# Altium schematic symbol library Dien Tro.SchLib: 576 symbols (part 1 of 3)
Pins are listed as number, name and electrical type; pins without a type are passive.

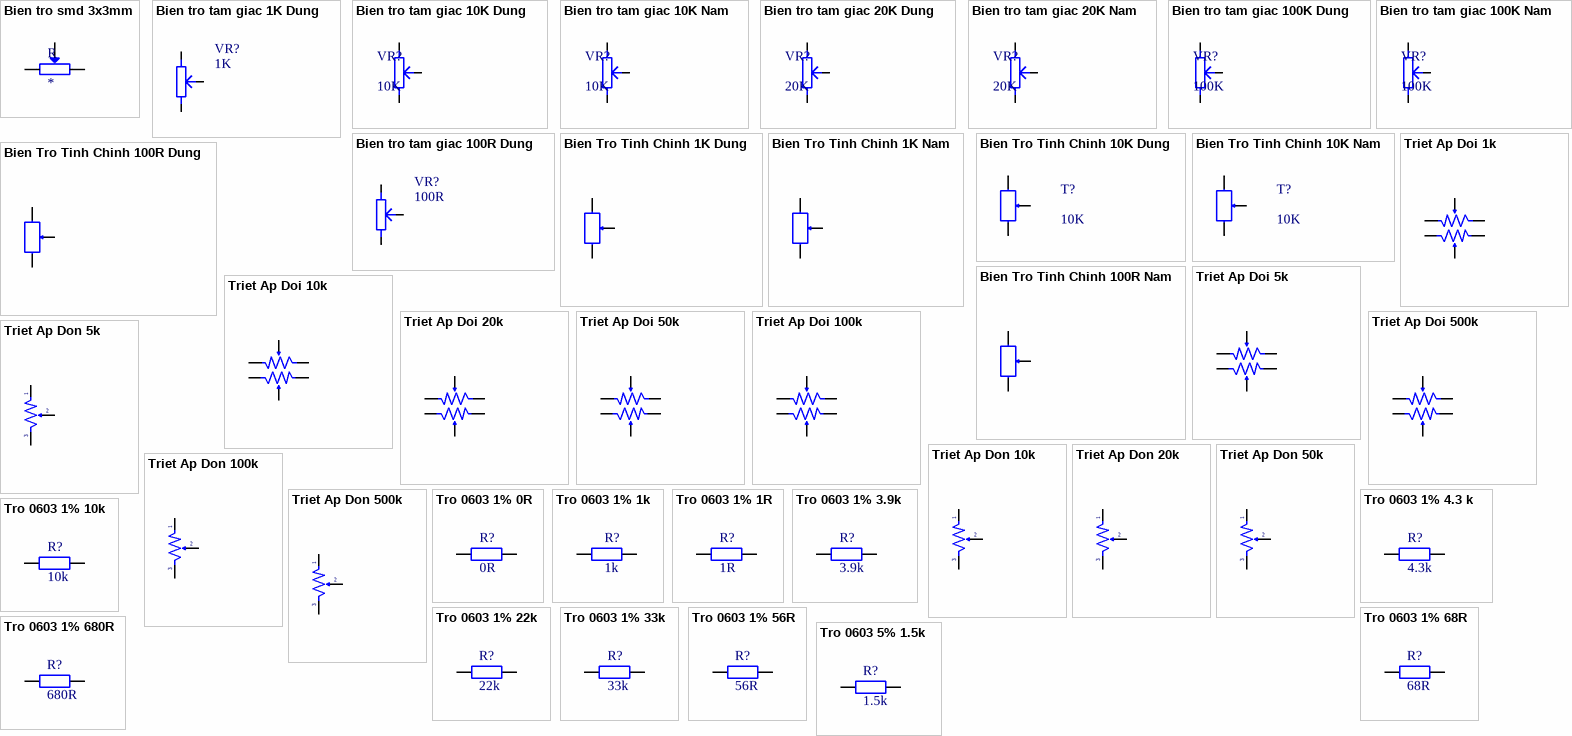
[diagram p0: symbols Bien tro smd 3x3mm to Tro 0603 5% 1.5k]

## Bien tro smd 3x3mm
designator R
Dan; MP: EVM3ESX50B12; MF: Panasonic; SnapEDA_Link: https://www.snapeda.com/parts/EVM3ESX50B12/Panasonic/view-part/558669/?ref=snap; Value: *; Price: None; Package: None; Availability: Unavailable
footprint Bien tro dan EMV3ESX50B12
pins: 1, 2, 3

## Bien tro tam giac 1K Dung
designator VR?, comment 1K
Cắm; Ten_Linh_Kien: Biến Trở Tam Giác 102-1K RM065; Don_Vi: Con; Ma_Hang: MH003709; Ghi_Chu: *; Kieu_Chan: *; Chung_Loai: Cắm
footprint Bien Tro Tam Giac Dung (RM065)
pins: 1, 2, 3

## Bien tro tam giac 10K Dung
designator VR?, comment 10K
Cắm; Ma_Hang: MH000919; Don_Vi: Con; Ten_Linh_Kien: Biến Trở Tam Giác 103-10K RM065 (Chân Đứng); Chung_Loai: Cắm; Kieu_Chan: *
footprint Bien Tro Tam Giac Dung (RM065)
pins: 1, 2, 3

## Bien tro tam giac 10K Nam
designator VR?, comment 10K
Cắm; Ma_Hang: MH004025; Don_Vi: Con; Ten_Linh_Kien: Biến Trở Tam Giác 103-10K RM063 (Chân nằm); Chung_Loai: Cắm; Kieu_Chan: *
footprint Bien Tro Tam Giac Nam (RM063)
pins: 1, 2, 3

## Bien tro tam giac 20K Dung
designator VR?, comment 20K
Cắm; Ma_Hang: MH003712; Don_Vi: Con; Ten_Linh_Kien: Biến Trở Tam Giác 203-20K RM065; Chung_Loai: Cắm; Kieu_Chan: *
footprint Bien Tro Tam Giac Dung (RM065)
pins: 1, 2, 3

## Bien tro tam giac 20K Nam
designator VR?, comment 20K
Cắm; Ma_Hang: MH006754; Don_Vi: Con; Ten_Linh_Kien: Biến Trở Tam Giác 203-20K RM063; Chung_Loai: Cắm; Kieu_Chan: *
footprint Bien Tro Tam Giac Nam (RM063)
pins: 1, 2, 3

## Bien tro tam giac 100K Dung
designator VR?, comment 100K
Cắm; Don_Vi: Con; Ten_Linh_Kien: Biến Trở Tam Giác 104-100K RM065; Ma_Hang: MH003711; Chung_Loai: Cắm; Ghi_Chu: *; Kieu_Chan: *
footprint Bien Tro Tam Giac Dung (RM065)
pins: 1, 2, 3

## Bien tro tam giac 100K Nam
designator VR?, comment 100K
Cắm; Don_Vi: Con; Ten_Linh_Kien: Biến Trở Tam Giác 104-100K RM063; Ma_Hang: MH006146; Chung_Loai: Cắm; Ghi_Chu: *; Kieu_Chan: *
footprint Bien Tro Tam Giac Nam (RM063)
pins: 1, 2, 3

## Bien tro tam giac 100R Dung
designator VR?, comment 100R
Cắm; Ten_Linh_Kien: Biến Trở Tam Giác 101-100R RM065; Don_Vi: Con; Ma_Hang: MH003710; Ghi_Chu: *; Kieu_Chan: *; Chung_Loai: Cắm
footprint Bien Tro Tam Giac Dung (RM065)
pins: 1, 2, 3

## Bien Tro Tinh Chinh 1K Dung
designator VR?, comment 1K
Cắm; Don_Vi: Con; Ten_Linh_Kien: Biến Trở VR 102-1K 3296W; Ma_Hang: MH003234; Kieu_Chan: *; Chung_Loai: Cắm
footprint Bien Tro Vi Chinh Dung (Bien tro vi chinh)
pins: 1, 2, 3

## Bien Tro Tinh Chinh 1K Nam
designator VR?, comment 1K
Cắm; Don_Vi: Con; Ten_Linh_Kien: Biến Trở VR 102-1K 3296W; Ma_Hang: MH003234; Kieu_Chan: *; Chung_Loai: Cắm
footprint BIEN TRO VI CHINH NAM
pins: 1, 2, 3

## Bien Tro Tinh Chinh 10K Dung
designator T?, comment 10K
Cắm; Ma_Hang: MH003232; Ten_Linh_Kien: Biến Trở VR 103-10K 3296W; Don_Vi: Con; Kieu_Chan: *; Chung_Loai: Cắm; Ghi_Chu: *
footprint Bien Tro Vi Chinh Dung (Bien tro vi chinh)
pins: 1, 2, 3

## Bien Tro Tinh Chinh 10K Nam
designator T?, comment 10K
Cắm; Ma_Hang: MH003232; Ten_Linh_Kien: Biến Trở VR 103-10K 3296W; Don_Vi: Con; Kieu_Chan: *; Chung_Loai: Cắm; Ghi_Chu: *
footprint BIEN TRO VI CHINH NAM
pins: 1, 2, 3

## Bien Tro Tinh Chinh 100R Dung
designator VR?, comment 100R
Cắm; Don_Vi: Con; Ten_Linh_Kien: Biến Trở VR 101-100R 3296W; Ma_Hang: MH003235; Kieu_Chan: *; Chung_Loai: Cắm
footprint Bien Tro Vi Chinh Dung (Bien tro vi chinh)
pins: 1, 2, 3

## Bien Tro Tinh Chinh 100R Nam
designator VR?, comment 100R
Cắm; Don_Vi: Con; Ten_Linh_Kien: Biến Trở VR 101-100R 3296W; Ma_Hang: MH003235; Kieu_Chan: *; Chung_Loai: Cắm
footprint BIEN TRO VI CHINH NAM
pins: 1, 2, 3

## Triet Ap Doi 1k
designator VR?, comment 1K
Cắm; Don_Vi: Con; Ten_Linh_Kien: Triết Áp Đôi B1K; Ma_Hang: MH001564; Kieu_Chan: *; Chung_Loai: Cắm
footprint Bien TRo Volume Doi (Volume control Dual)
pins: 1, 2, 3, 4, 5, 6

## Triet Ap Doi 5k
designator VR?, comment 5K
Cắm; Don_Vi: Con; Ten_Linh_Kien: Triết Áp Đôi B5K; Ma_Hang: MH001563; Kieu_Chan: *; Chung_Loai: Cắm
footprint Bien TRo Volume Doi (Volume control Dual)
pins: 1, 2, 3, 4, 5, 6

## Triet Ap Doi 10k
designator VR?, comment 10K
Cắm; Don_Vi: Con; Ten_Linh_Kien: Triết Áp Đôi B10K; Ma_Hang: MH001562; Kieu_Chan: *; Chung_Loai: Cắm
footprint Bien TRo Volume Doi (Volume control Dual)
pins: 1, 2, 3, 4, 5, 6

## Triet Ap Doi 20k
designator VR?, comment 20K
Cắm; Don_Vi: Con; Ten_Linh_Kien: Triết Áp Đôi B20K; Ma_Hang: MH001561; Kieu_Chan: *; Chung_Loai: Cắm
footprint Bien TRo Volume Doi (Volume control Dual)
pins: 1, 2, 3, 4, 5, 6

## Triet Ap Doi 50k
designator VR?, comment 50k
Cắm; Don_Vi: Con; Ten_Linh_Kien: Triết Áp Đôi B50K; Ma_Hang: MH001560; Kieu_Chan: *; Chung_Loai: Cắm
footprint Bien TRo Volume Doi (Volume control Dual)
pins: 1, 2, 3, 4, 5, 6

## Triet Ap Doi 100k
designator VR?, comment 100K
Cắm; Don_Vi: Con; Ten_Linh_Kien: Triết Áp Đôi B100K; Ma_Hang: MH001559; Kieu_Chan: *; Chung_Loai: Cắm
footprint Bien TRo Volume Doi (Volume control Dual)
pins: 1, 2, 3, 4, 5, 6

## Triet Ap Doi 500k
designator VR?, comment 500k
Cắm; Don_Vi: Con; Ten_Linh_Kien: Triết Áp Đôi B500K; Ma_Hang: MH001558; Kieu_Chan: *; Chung_Loai: Cắm
footprint Bien TRo Volume Doi (Volume control Dual)
pins: 1, 2, 3, 4, 5, 6

## Triet Ap Don 5k
designator VR?, comment 5K
Cắm; Don_Vi: Con; Ten_Linh_Kien: Triết Áp Đơn B5K; Ma_Hang: MH001416; Kieu_Chan: *; Chung_Loai: Cắm
footprint Bien Tro Volume Don (Volume control single)
pins: 1, 2, 3

## Triet Ap Don 10k
designator VR?, comment 10K
Cắm; Don_Vi: Con; Ten_Linh_Kien: Triết Áp Đơn B10K; Ma_Hang: MH001417; Kieu_Chan: *; Chung_Loai: Cắm
footprint Bien Tro Volume Don (Volume control single)
pins: 1, 2, 3

## Triet Ap Don 20k
designator VR?, comment 20k
Cắm; Don_Vi: Con; Ten_Linh_Kien: Triết Áp Đơn B20K; Ma_Hang: MH001418; Kieu_Chan: *; Chung_Loai: Cắm
footprint Bien Tro Volume Don (Volume control single)
pins: 1, 2, 3

## Triet Ap Don 50k
designator VR?, comment 50K
Cắm; Don_Vi: Con; Ten_Linh_Kien: Triết Áp Đơn B50K; Ma_Hang: MH001419; Kieu_Chan: *; Chung_Loai: Cắm
footprint Bien Tro Volume Don (Volume control single)
pins: 1, 2, 3

## Triet Ap Don 100k
designator VR?, comment 100k
Cắm; Don_Vi: Con; Ten_Linh_Kien: Triết Áp Đơn B100K; Ma_Hang: MH001420; Kieu_Chan: *; Chung_Loai: Cắm
footprint Bien Tro Volume Don (Volume control single)
pins: 1, 2, 3

## Triet Ap Don 500k
designator VR?, comment 500k
Cắm; Don_Vi: Con; Ten_Linh_Kien: Triết Áp Đơn B500K; Ma_Hang: MH001530; Kieu_Chan: *; Chung_Loai: Cắm
footprint Bien Tro Volume Don (Volume control single)
pins: 1, 2, 3

## Tro 0603 1% 0R
designator R?, comment 0R
Dán; Don_Vi: Con; So_Chan: 2; Ten_Linh_Kien: Trở 0603 1% 0R; Ma_Hang: MH005792; Chung_Loai: Dán; Kieu_Chan: *
footprint tro smd 0603 (Chip Capacitor, 2-Leads, Body 1,60x0,80mm, IPC Medium Density)
pins: 1, 2

## Tro 0603 1% 1k
designator R?, comment 1k
Dán; So_Chan: 2; Don_Vi: Con; Ten_Linh_Kien: Trở 0603 1% 1k; Ma_Hang: MH006334; Chung_Loai: Dán; Kieu_Chan: *
footprint tro smd 0603 (Chip Capacitor, 2-Leads, Body 1,60x0,80mm, IPC Medium Density)
pins: 1, 2

## Tro 0603 1% 1R
designator R?, comment 1R
Dán; Don_Vi: Con; So_Chan: 2; Ten_Linh_Kien: Trở 0603 1% 1R; Ma_Hang: MH007007; Chung_Loai: Dán; Kieu_Chan: *
footprint tro smd 0603 (Chip Capacitor, 2-Leads, Body 1,60x0,80mm, IPC Medium Density)
pins: 1, 2

## Tro 0603 1% 3.9k
designator R?, comment 3.9k
Dán; So_Chan: 2; Ten_Linh_Kien: Trở 0603 1% 3.9k; Ma_Hang: MH005793; Don_Vi: Con; Chung_Loai: Dán; Kieu_Chan: *
footprint tro smd 0603 (Chip Capacitor, 2-Leads, Body 1,60x0,80mm, IPC Medium Density)
pins: 1, 2

## Tro 0603 1% 4.3 k
designator R?, comment 4.3k
Dán; Don_Vi: Con; So_Chan: 2; Ten_Linh_Kien: Trở 0603 1% 4.3k; Ma_Hang: MH008715; Chung_Loai: Dán; Kieu_Chan: *
footprint tro smd 0603 (Chip Capacitor, 2-Leads, Body 1,60x0,80mm, IPC Medium Density)
pins: 1, 2

## Tro 0603 1% 10k
designator R?, comment 10k
Dán; Don_Vi: Con; So_Chan: 2; Ten_Linh_Kien: Trở 0603 1% 10k; Ma_Hang: MH006333; Chung_Loai: Dán; Kieu_Chan: *
footprint tro smd 0603 (Chip Capacitor, 2-Leads, Body 1,60x0,80mm, IPC Medium Density)
pins: 1, 2

## Tro 0603 1% 22k
designator R?, comment 22k
Dán; Don_Vi: Con; So_Chan: 2; Ten_Linh_Kien: Trở 0603 1% 22k; Ma_Hang: MH005794; Chung_Loai: Dán; Kieu_Chan: *
footprint tro smd 0603 (Chip Capacitor, 2-Leads, Body 1,60x0,80mm, IPC Medium Density)
pins: 1, 2

## Tro 0603 1% 33k
designator R?, comment 33k
Dán; Don_Vi: Con; So_Chan: 2; Ten_Linh_Kien: Trở 0603 1% 33k; Ma_Hang: MH006335; Chung_Loai: Dán; Kieu_Chan: *
footprint Tro smd 0603 (Chip Capacitor, 2-Leads, Body 1,60x0,80mm, IPC Medium Density)
pins: 1, 2

## Tro 0603 1% 56R
designator R?, comment 56R
Dán; Don_Vi: Con; So_Chan: 2; Ten_Linh_Kien: Trở 0603 1% 56R; Ma_Hang: MH006338; Chung_Loai: Dán; Kieu_Chan: *
footprint tro smd 0603 (Chip Capacitor, 2-Leads, Body 1,60x0,80mm, IPC Medium Density)
pins: 1, 2

## Tro 0603 1% 68R
designator R?, comment 68R
Dán; Don_Vi: Con; So_Chan: 2; Ten_Linh_Kien: Trở 0603 1% 68R; Ma_Hang: MH006337; Chung_Loai: Dán; Kieu_Chan: *
footprint tro smd 0603 (Chip Capacitor, 2-Leads, Body 1,60x0,80mm, IPC Medium Density)
pins: 1, 2

## Tro 0603 1% 680R
designator R?, comment 680R
Dán; Don_Vi: Con; So_Chan: 2; Ten_Linh_Kien: Trở 0603 1% 680R; Ma_Hang: MH006336; Chung_Loai: Dán; Kieu_Chan: *
footprint tro smd 0603 (Chip Capacitor, 2-Leads, Body 1,60x0,80mm, IPC Medium Density)
pins: 1, 2

## Tro 0603 5% 1.5k
designator R?, comment 1.5k
Dán; Don_Vi: Con; So_Chan: 2; Ten_Linh_Kien: Trở 0603 5% 1.5k; Ma_Hang: MH006313; Chung_Loai: Dán; Kieu_Chan: *
footprint tro smd 0603 (Chip Capacitor, 2-Leads, Body 1,60x0,80mm, IPC Medium Density)
pins: 1, 2

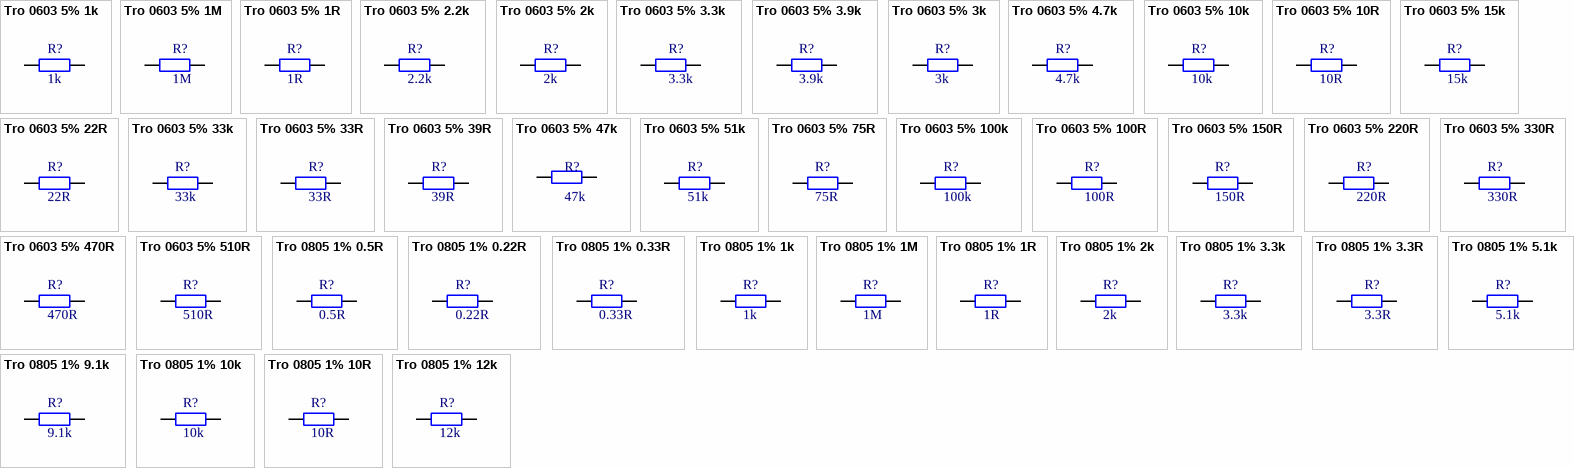
[diagram p1: symbols Tro 0603 5% 1k to Tro 0805 1% 12k]

## Tro 0603 5% 1k
designator R?, comment 1k
Dán; Don_Vi: Con; So_Chan: 2; Ten_Linh_Kien: Trở 0603 5% 1k; Ma_Hang: MH006319; Chung_Loai: Dán; Kieu_Chan: *
footprint tro smd 0603 (Chip Capacitor, 2-Leads, Body 1,60x0,80mm, IPC Medium Density)
pins: 1, 2

## Tro 0603 5% 1M
designator R?, comment 1M
Dán; Don_Vi: Con; So_Chan: 2; Ten_Linh_Kien: Trở 0603 5% 1M; Ma_Hang: MH006909; Chung_Loai: Dán; Kieu_Chan: *
footprint tro smd 0603 (Chip Capacitor, 2-Leads, Body 1,60x0,80mm, IPC Medium Density)
pins: 1, 2

## Tro 0603 5% 1R
designator R?, comment 1R
Dán; Don_Vi: Con; So_Chan: 2; Ten_Linh_Kien: Trở 0603 5% 1R; Ma_Hang: MH006320; Chung_Loai: Dán; Kieu_Chan: *
footprint tro smd 0603 (Chip Capacitor, 2-Leads, Body 1,60x0,80mm, IPC Medium Density)
pins: 1, 2

## Tro 0603 5% 2.2k
designator R?, comment 2.2k
Dán; Don_Vi: Con; So_Chan: 2; Ten_Linh_Kien: Trở 0603 5% 2.2k; Ma_Hang: MH006321; Chung_Loai: Dán; Kieu_Chan: *
footprint tro smd 0603 (Chip Capacitor, 2-Leads, Body 1,60x0,80mm, IPC Medium Density)
pins: 1, 2

## Tro 0603 5% 2k
designator R?, comment 2k
Dán; Don_Vi: Con; So_Chan: 2; Ten_Linh_Kien: Trở 0603 5% 2k; Ma_Hang: MH006324; Chung_Loai: Dán; Kieu_Chan: *
footprint tro smd 0603 (Chip Capacitor, 2-Leads, Body 1,60x0,80mm, IPC Medium Density)
pins: 1, 2

## Tro 0603 5% 3.3k
designator R?, comment 3.3k
Dán; Don_Vi: Con; So_Chan: 2; Ten_Linh_Kien: Trở 0603 5% 3.3k; Ma_Hang: MH006332; Chung_Loai: Dán; Kieu_Chan: *
footprint tro smd 0603 (Chip Capacitor, 2-Leads, Body 1,60x0,80mm, IPC Medium Density)
pins: 1, 2

## Tro 0603 5% 3.9k
designator R?, comment 3.9k
Dán; Chung_Loai: Dám; Don_Vi: Con; So_Chan: 2; Ten_Linh_Kien: Trở 0603 5% 3.9k; Ma_Hang: MH007884; Kieu_Chan: *
footprint tro smd 0603 (Chip Capacitor, 2-Leads, Body 1,60x0,80mm, IPC Medium Density)
pins: 1, 2

## Tro 0603 5% 3k
designator R?, comment 3k
Dán; Chung_Loai: Dám; Don_Vi: Con; So_Chan: 2; Ma_Hang: MH008668; Ten_Linh_Kien: Trở 0603 5% 3k; Kieu_Chan: *
footprint tro smd 0603 (Chip Capacitor, 2-Leads, Body 1,60x0,80mm, IPC Medium Density)
pins: 1, 2

## Tro 0603 5% 4.7k
designator R?, comment 4.7k
Dán; Don_Vi: Con; So_Chan: 2; Ten_Linh_Kien: Trở 0603 5% 4.7k; Ma_Hang: MH006327; Chung_Loai: Dán; Kieu_Chan: *
footprint tro smd 0603 (Chip Capacitor, 2-Leads, Body 1,60x0,80mm, IPC Medium Density)
pins: 1, 2

## Tro 0603 5% 10k
designator R?, comment 10k
Dán; Don_Vi: Con; So_Chan: 2; Ten_Linh_Kien: Trở 0603 5% 10k; Ma_Hang: MH006316; Chung_Loai: Dán; Kieu_Chan: *
footprint tro smd 0603 (Chip Capacitor, 2-Leads, Body 1,60x0,80mm, IPC Medium Density)
pins: 1, 2

## Tro 0603 5% 10R
designator R?, comment 10R
Dán; So_Chan: 2; Ten_Linh_Kien: Trở 0603 5% 10R; Ma_Hang: MH006317; Don_Vi: Con; Chung_Loai: Dán; Kieu_Chan: *
footprint Tro smd 0603 (Chip Capacitor, 2-Leads, Body 1,60x0,80mm, IPC Medium Density)
pins: 1, 2

## Tro 0603 5% 15k
designator R?, comment 15k
Dán; So_Chan: 2; Don_Vi: Con; Ten_Linh_Kien: Trở 0603 5% 15k; Ma_Hang: MH004575; Chung_Loai: Dán; Kieu_Chan: *
footprint tro smd 0603 (Chip Capacitor, 2-Leads, Body 1,60x0,80mm, IPC Medium Density)
pins: 1, 2

## Tro 0603 5% 22R
designator R?, comment 22R
Dán; Don_Vi: Con; So_Chan: 2; Ten_Linh_Kien: Trở 0603 5% 22R; Ma_Hang: MH006331; Chung_Loai: Dán; Kieu_Chan: *
footprint tro smd 0603 (Chip Capacitor, 2-Leads, Body 1,60x0,80mm, IPC Medium Density)
pins: 1, 2

## Tro 0603 5% 33k
designator R?, comment 33k
Dán; Don_Vi: Con; So_Chan: 2; Ten_Linh_Kien: Trở 0603 5% 33k; Ma_Hang: MH006325; Chung_Loai: Dán; Kieu_Chan: *
footprint tro smd 0603 (Chip Capacitor, 2-Leads, Body 1,60x0,80mm, IPC Medium Density)
pins: 1, 2

## Tro 0603 5% 33R
designator R?, comment 33R
Dán; Don_Vi: Con; So_Chan: 2; Ten_Linh_Kien: Trở 0603 5% 33R; Ma_Hang: MH006326; Chung_Loai: Dán; Kieu_Chan: *
footprint tro smd 0603 (Chip Capacitor, 2-Leads, Body 1,60x0,80mm, IPC Medium Density)
pins: 1, 2

## Tro 0603 5% 39R
designator R?, comment 39R
Dán; Don_Vi: Con; So_Chan: 2; Ten_Linh_Kien: Trở 0603 5% 39R; Ma_Hang: MH008714; Chung_Loai: Dán; Kieu_Chan: *
footprint tro smd 0603 (Chip Capacitor, 2-Leads, Body 1,60x0,80mm, IPC Medium Density)
pins: 1, 2

## Tro 0603 5% 47k
designator R?, comment 47k
Dán; Chung_loai: Dám; Don_Vi: Con; So_Chan: 2; Ten_Linh_Kien: Trở 0603 5% 47k; Ma_Hang: MH007665; Kieu_Chan: *
footprint tro smd 0603 (Chip Capacitor, 2-Leads, Body 1,60x0,80mm, IPC Medium Density)
pins: 1, 2

## Tro 0603 5% 51k
designator R?, comment 51k
Dán; Don_Vi: Con; So_Chan: 2; Ten_Linh_Kien: Trở 0603 5% 51k; Ma_Hang: MH007666; Chung_Loai: Dán; Kieu_Chan: *
footprint tro smd 0603 (Chip Capacitor, 2-Leads, Body 1,60x0,80mm, IPC Medium Density)
pins: 1, 2

## Tro 0603 5% 75R
designator R?, comment 75R
Dán; Don_Vi: Con; So_Chan: 2; Ten_Linh_Kien: Trở 0603 5% 75R; Ma_Hang: MH006329; Chung_Loai: Dán; Kieu_Chan: *
footprint tro smd 0603 (Chip Capacitor, 2-Leads, Body 1,60x0,80mm, IPC Medium Density)
pins: 1, 2

## Tro 0603 5% 100k
designator R?, comment 100k
Dán; So_Chan: 2; Ten_Linh_Kien: Trở 0603 5% 100k; Ma_Hang: MH006314; Don_Vi: Con; Chung_Loai: Dán; Kieu_Chan: *
footprint tro smd 0603 (Chip Capacitor, 2-Leads, Body 1,60x0,80mm, IPC Medium Density)
pins: 1, 2

## Tro 0603 5% 100R
designator R?, comment 100R
Dán; Don_Vi: Con; So_Chan: 2; Ten_Linh_Kien: Trở 0603 5% 100R; Ma_Hang: MH006315; Chung_Loai: Dán; Kieu_Chan: *
footprint tro smd 0603 (Chip Capacitor, 2-Leads, Body 1,60x0,80mm, IPC Medium Density)
pins: 1, 2

## Tro 0603 5% 150R
designator R?, comment 150R
Dán; Don_Vi: Con; So_Chan: 2; Ten_Linh_Kien: Trở 0603 5% 150R; Ma_Hang: MH006318; Chung_Loai: Dán; Kieu_Chan: *
footprint tro smd 0603 (Chip Capacitor, 2-Leads, Body 1,60x0,80mm, IPC Medium Density)
pins: 1, 2

## Tro 0603 5% 220R
designator R?, comment 220R
Dán; Don_Vi: Con; So_Chan: 2; Ten_Linh_Kien: Trở 0603 5% 220R; Ma_Hang: MH006322; Chung_Loai: Dán; Kieu_Chan: *
footprint tro smd 0603 (Chip Capacitor, 2-Leads, Body 1,60x0,80mm, IPC Medium Density)
pins: 1, 2

## Tro 0603 5% 330R
designator R?, comment 330R
Dán; Don_Vi: Con; Ma_Hang: MH006910; So_Chan: 2; Ten_Linh_Kien: Trở 0603 5% 330R; Chung_Loai: Dán; Kieu_Chan: *
footprint tro smd 0603 (Chip Capacitor, 2-Leads, Body 1,60x0,80mm, IPC Medium Density)
pins: 1, 2

## Tro 0603 5% 470R
designator R?, comment 470R
Dán; Don_Vi: Con; So_Chan: 2; Ten_Linh_Kien: Trở 0603 5% 470R; Ma_Hang: MH006328; Chung_Loai: Dán; Kieu_Chan: *
footprint tro smd 0603 (Chip Capacitor, 2-Leads, Body 1,60x0,80mm, IPC Medium Density)
pins: 1, 2

## Tro 0603 5% 510R
designator R?, comment 510R
Dán; Don_Vi: Con; So_Chan: 2; Ten_Linh_Kien: Trở 0603 5% 510R; Ma_Hang: MH007667; Chung_Loai: Dán; Kieu_Chan: *
footprint tro smd 0603 (Chip Capacitor, 2-Leads, Body 1,60x0,80mm, IPC Medium Density)
pins: 1, 2

## Tro 0805 1% 0.5R
designator R?, comment 0.5R
Dán; Don_Vi: Con; So_Chan: 2; Ten_Linh_Kien: Trở 0805 1% 0.5R; Ma_Hang: MH005465; Chung_Loai: Dán; Kieu_Chan: *
footprint tro smd 0805
pins: 1, 2

## Tro 0805 1% 0.22R
designator R?, comment 0.22R
Dán; Don_Vi: Con; So_Chan: 2; Ten_Linh_Kien: Trở 0805 1% 0.22R; Ma_Hang: MH005466; Chung_Loai: Dán; Kieu_Chan: *
footprint tro smd 0805
pins: 1, 2

## Tro 0805 1% 0.33R
designator R?, comment 0.33R
Dán; Don_Vi: Con; So_Chan: 2; Ten_Linh_Kien: Trở 0805 1% 0.33R; Ma_Hang: MH005467; Chung_Loai: Dán; Kieu_Chan: *
footprint tro smd 0805
pins: 1, 2

## Tro 0805 1% 1k
designator R?, comment 1k
Dán; Don_Vi: Con; So_Chan: 2; Ten_Linh_Kien: Trở 0805 1% 1k; Ma_Hang: MH005468; Chung_Loai: Dán; Kieu_Chan: *
footprint tro smd 0805
pins: 1, 2

## Tro 0805 1% 1M
designator R?, comment 1M
Dán; Don_Vi: Con; So_Chan: 2; Ten_Linh_Kien: Trở 0805 1% 1M; Ma_Hang: MH005469; Chung_Loai: Dán; Kieu_Chan: *
footprint tro smd 0805
pins: 1, 2

## Tro 0805 1% 1R
designator R?, comment 1R
Dán; Don_Vi: Con; So_Chan: 2; Ten_Linh_Kien: Trở 0805 1% 1R; Ma_Hang: MH004177; Chung_Loai: Dán; Kieu_Chan: *
footprint tro smd 0805
pins: 1, 2

## Tro 0805 1% 2k
designator R?, comment 2k
Dán; Don_Vi: Con; So_Chan: 2; Ten_Linh_Kien: Trở 0805 1% 2k; Ma_Hang: MH005471; Chung_Loai: Dán; Kieu_Chan: *
footprint tro smd 0805
pins: 1, 2

## Tro 0805 1% 3.3k
designator R?, comment 3.3k
Dán; Don_Vi: Con; So_Chan: 2; Ten_Linh_Kien: Trở 0805 1% 3.3k; Ma_Hang: MH005472; Chung_Loai: Dán; Kieu_Chan: *
footprint tro smd 0805
pins: 1, 2

## Tro 0805 1% 3.3R
designator R?, comment 3.3R
Dán; Don_Vi: Con; So_Chan: 2; Ten_Linh_Kien: Trở 0805 1% 3.3R; Ma_Hang: MH006291; Chung_Loai: Dán; Kieu_Chan: *
footprint tro smd 0805
pins: 1, 2

## Tro 0805 1% 5.1k
designator R?, comment 5.1k
Dán; Don_Vi: Con; So_Chan: 2; Ten_Linh_Kien: Trở 0805 1% 5.1k; Ma_Hang: MH008812; Chung_Loai: Dán; Kieu_Chan: *
footprint tro smd 0805
pins: 1, 2

## Tro 0805 1% 9.1k
designator R?, comment 9.1k
Dán; Don_Vi: Con; So_Chan: 2; Ten_Linh_Kien: Trở 0805 1% 9.1k; Ma_Hang: MH008813; Chung_Loai: Dán; Kieu_Chan: *
footprint tro smd 0805
pins: 1, 2

## Tro 0805 1% 10k
designator R?, comment 10k
Dán; Don_Vi: Con; So_Chan: 2; Ten_Linh_Kien: Trở 0805 1% 10k; Ma_Hang: MH005473; Chung_Loai: Dán; Kieu_Chan: *
footprint tro smd 0805
pins: 1, 2

## Tro 0805 1% 10R
designator R?, comment 10R
Dán; Don_Vi: Con; So_Chan: 2; Ten_Linh_Kien: Trở 0805 1% 10R; Ma_Hang: MH005474; Chung_Loai: Dán; Kieu_Chan: *
footprint tro smd 0805
pins: 1, 2

## Tro 0805 1% 12k
designator R?, comment 12k
Dán; Don_Vi: Con; So_Chan: 2; Ten_Linh_Kien: Trở 0805 1% 12k; Ma_Hang: MH005475; Chung_Loai: Dán; Kieu_Chan: *
footprint tro smd 0805
pins: 1, 2

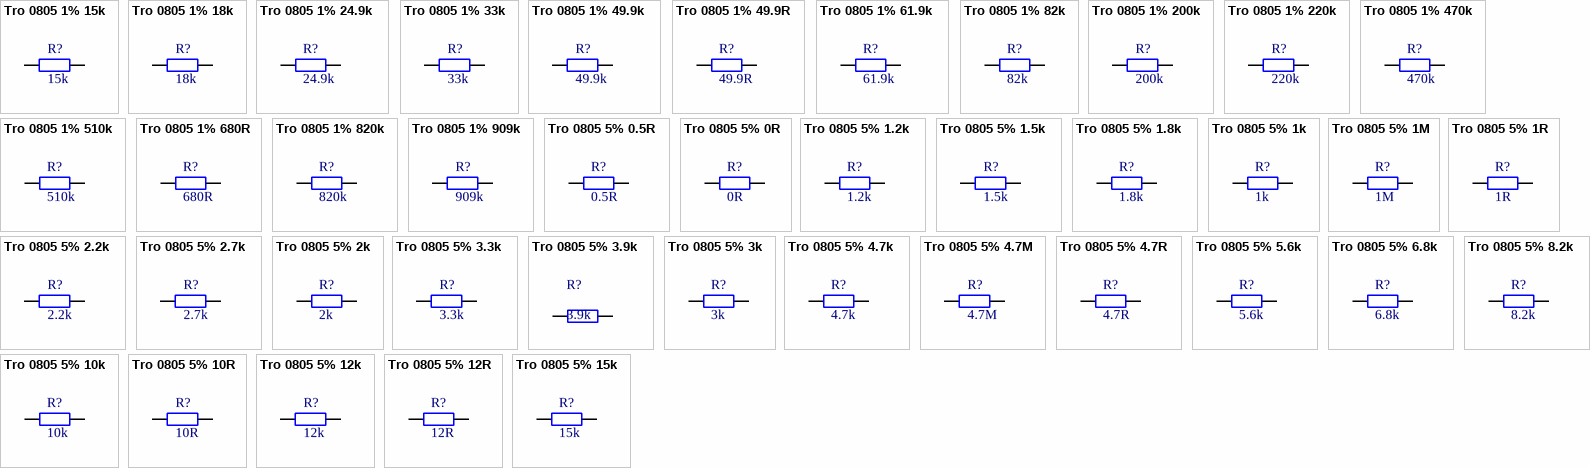
[diagram p2: symbols Tro 0805 1% 15k to Tro 0805 5% 15k]

## Tro 0805 1% 15k
designator R?, comment 15k
Dán; Don_Vi: Con; So_Chan: 2; Ten_Linh_Kien: Trở 0805 1% 15k; Ma_Hang: MH005476; Chung_Loai: Dán; Kieu_Chan: *
footprint tro smd 0805
pins: 1, 2

## Tro 0805 1% 18k
designator R?, comment 18k
Dán; Don_Vi: Con; So_Chan: 2; Ten_Linh_Kien: Trở 0805 1% 18k; Ma_Hang: MH005477; Chung_Loai: Dán; Kieu_Chan: *
footprint tro smd 0805
pins: 1, 2

## Tro 0805 1% 24.9k
designator R?, comment 24.9k
Dán; Don_Vi: Con; So_Chan: 2; Ten_Linh_Kien: Trở 0805 1% 24.9k; Ma_Hang: MH008815; Chung_Loai: Dán; Kieu_Chan: *
footprint tro smd 0805
pins: 1, 2

## Tro 0805 1% 33k
designator R?, comment 33k
Dán; Don_Vi: Con; So_Chan: 2; Ten_Linh_Kien: Trở 0805 1% 33k; Ma_Hang: MH005478; Chung_Loai: Dán; Kieu_Chan: *
footprint tro smd 0805
pins: 1, 2

## Tro 0805 1% 49.9k
designator R?, comment 49.9k
Dán; Don_Vi: Con; So_Chan: 2; Ten_Linh_Kien: Trở 0805 1% 49.9k; Ma_Hang: MH005479; Chung_Loai: Dán; Kieu_Chan: *
footprint tro smd 0805
pins: 1, 2

## Tro 0805 1% 49.9R
designator R?, comment 49.9R
Dán; Don_Vi: Con; So_Chan: 2; Ten_Linh_Kien: Trở 0805 1% 49.9R; Ma_Hang: MH005480; Chung_Loai: Dán; Kieu_Chan: *
footprint tro smd 0805
pins: 1, 2

## Tro 0805 1% 61.9k
designator R?, comment 61.9k
Dán; Don_Vi: Con; So_Chan: 2; Ten_Linh_Kien: Trở 0805 1% 61.9k; Ma_Hang: MH005481; Chung_Loai: Dán; Kieu_Chan: *
footprint tro smd 0805
pins: 1, 2

## Tro 0805 1% 82k
designator R?, comment 82k
Dán; Don_Vi: Con; So_Chan: 2; Ten_Linh_Kien: Trở 0805 1% 82k; Ma_Hang: MH005482; Chung_Loai: Dán; Kieu_Chan: *
footprint tro smd 0805
pins: 1, 2

## Tro 0805 1% 200k
designator R?, comment 200k
Dán; Don_Vi: Con; So_Chan: 2; Ten_Linh_Kien: Trở 0805 1% 200k; Ma_Hang: MH005483; Chung_Loai: Dán; Kieu_Chan: *
footprint tro smd 0805
pins: 1, 2

## Tro 0805 1% 220k
designator R?, comment 220k
Dán; Don_Vi: Con; So_Chan: 2; Ten_Linh_Kien: Trở 0805 1% 220k; Ma_Hang: MH005484; Chung_Loai: Dán; Kieu_Chan: *
footprint tro smd 0805
pins: 1, 2

## Tro 0805 1% 470k
designator R?, comment 470k
Dán; Don_Vi: Con; So_Chan: 2; Ten_Linh_Kien: Trở 0805 1% 470k; Ma_Hang: MH005485; Chung_Loai: Dán; Kieu_Chan: *
footprint tro smd 0805
pins: 1, 2

## Tro 0805 1% 510k
designator R?, comment 510k
Dán; Don_Vi: Con; So_Chan: 2; Ten_Linh_Kien: Trở 0805 1% 510k; Ma_Hang: MH005486; Chung_Loai: Dán; Kieu_Chan: *
footprint tro smd 0805
pins: 1, 2

## Tro 0805 1% 680R
designator R?, comment 680R
Dán; Don_Vi: Con; So_Chan: 2; Ten_Linh_Kien: Trở 0805 1% 680R; Ma_Hang: MH005487; Chung_Loai: Dán; Kieu_Chan: *
footprint tro smd 0805
pins: 1, 2

## Tro 0805 1% 820k
designator R?, comment 820k
Dán; Don_Vi: Con; So_Chan: 2; Ten_Linh_Kien: Trở 0805 1% 820k; Ma_Hang: MH005488; Chung_Loai: Dán; Kieu_Chan: *
footprint tro smd 0805
pins: 1, 2

## Tro 0805 1% 909k
designator R?, comment 909k
Dán; Don_Vi: Con; So_Chan: 2; Ten_Linh_Kien: Trở 0805 1% 909k; Ma_Hang: MH005489; Chung_Loai: Dán; Kieu_Chan: *
footprint tro smd 0805
pins: 1, 2

## Tro 0805 5% 0.5R
designator R?, comment 0.5R
Dán; Don_Vi: Con; So_Chan: 2; Ten_Linh_Kien: Trở 0805 5% 0.5R; Ma_Hang: MH005303; Chung_Loai: Dán; Kieu_Chan: *
footprint tro smd 0805
pins: 1, 2

## Tro 0805 5% 0R
designator R?, comment 0R
Dán; Don_Vi: Con; So_Chan: 2; Ten_Linh_Kien: Trở 0805 5% 0R; Ma_Hang: MH005230; Chung_Loai: Dán; Kieu_Chan: *
footprint tro smd 0805
pins: 1, 2

## Tro 0805 5% 1.2k
designator R?, comment 1.2k
Dán; Don_Vi: Con; So_Chan: 2; Ten_Linh_Kien: Trở 0805 5% 1.2k; Ma_Hang: MH005231; Chung_Loai: Dán; Kieu_Chan: *
footprint tro smd 0805
pins: 1, 2

## Tro 0805 5% 1.5k
designator R?, comment 1.5k
Dán; Don_Vi: Con; So_Chan: 2; Ten_Linh_Kien: Trở 0805 5% 1.5k; Ma_Hang: MH005232; Chung_Loai: Dán; Kieu_Chan: *
footprint tro smd 0805
pins: 1, 2

## Tro 0805 5% 1.8k
designator R?, comment 1.8k
Dán; Don_Vi: Con; So_Chan: 2; Ten_Linh_Kien: Trở 0805 5% 1.8k; Ma_Hang: MH005233; Chung_Loai: Dán; Kieu_Chan: *
footprint tro smd 0805
pins: 1, 2

## Tro 0805 5% 1k
designator R?, comment 1k
Dán; Don_Vi: Con; So_Chan: 2; Ten_Linh_Kien: Trở 0805 5% 1k; Ma_Hang: MH005234; Chung_Loai: Dán; Kieu_Chan: *
footprint tro smd 0805
pins: 1, 2

## Tro 0805 5% 1M
designator R?, comment 1M
Dán; Don_Vi: Con; So_Chan: 2; Ten_Linh_Kien: Trở 0805 5% 1M; Ma_Hang: MH005235; Chung_Loai: Dán; Kieu_Chan: *
footprint tro smd 0805
pins: 1, 2

## Tro 0805 5% 1R
designator R?, comment 1R
Dán; Don_Vi: Con; So_Chan: 2; Ten_Linh_Kien: Trở 0805 5% 1R; Ma_Hang: MH005236; Chung_Loai: Dán; Kieu_Chan: *
footprint tro smd 0805
pins: 1, 2

## Tro 0805 5% 2.2k
designator R?, comment 2.2k
Dán; Don_Vi: Con; So_Chan: 2; Ten_Linh_Kien: Trở 0805 5% 2.2k; Ma_Hang: MH005237; Chung_Loai: Dán; Kieu_Chan: *
footprint tro smd 0805
pins: 1, 2

## Tro 0805 5% 2.7k
designator R?, comment 2.7k
Dán; Don_Vi: Con; So_Chan: 2; Ten_Linh_Kien: Trở 0805 5% 2.7k; Ma_Hang: MH005238; Chung_Loai: Dán; Kieu_Chan: *
footprint tro smd 0805
pins: 1, 2

## Tro 0805 5% 2k
designator R?, comment 2k
Dán; Don_Vi: Con; So_Chan: 2; Ten_Linh_Kien: Trở 0805 5% 2k; Ma_Hang: MH005304; Chung_Loai: Dán; Kieu_Chan: *
footprint Tro SMD 0805
pins: 1, 2

## Tro 0805 5% 3.3k
designator R?, comment 3.3k
Dán; Don_Vi: Con; So_Chan: 2; Ten_Linh_Kien: Trở 0805 5% 3.3k; Ma_Hang: MH005305; Chung_Loai: Dán; Kieu_Chan: *
footprint tro smd 0805
pins: 1, 2

## Tro 0805 5% 3.9k
designator R?, comment 3.9k
Dán; Don_Vi: Con; Ma_Hang: MH007670; Ten_Linh_Kien: Trở 0805 5% 3.9k; So_Chan: 2; Chung_Loai: Dán; Kieu_Chan: *
footprint Tro SMD 0805
pins: 1, 2

## Tro 0805 5% 3k
designator R?, comment 3k
Dán; Don_Vi: Con; So_Chan: 2; Ten_Linh_Kien: Trở 0805 5% 3k; Ma_Hang: MH005306; Chung_Loai: Dán; Kieu_Chan: *
footprint tro smd 0805
pins: 1, 2

## Tro 0805 5% 4.7k
designator R?, comment 4.7k
Dán; Don_Vi: Con; So_Chan: 2; Ten_Linh_Kien: Trở 0805 5% 4.7k; Ma_Hang: MH005307; Chung_Loai: Dán; Kieu_Chan: *
footprint tro smd 0805
pins: 1, 2

## Tro 0805 5% 4.7M
designator R?, comment 4.7M
Dán; Don_Vi: Con; So_Chan: 2; Ten_Linh_Kien: Trở 0805 5% 4.7M; Ma_Hang: MH005308; Chung_Loai: Dán; Kieu_Chan: *
footprint tro smd 0805
pins: 1, 2

## Tro 0805 5% 4.7R
designator R?, comment 4.7R
Dán; Don_Vi: Con; So_Chan: 2; Ten_Linh_Kien: Trở 0805 5% 4.7R; Ma_Hang: MH005309; Chung_Loai: Dán; Kieu_Chan: *
footprint tro smd 0805
pins: 1, 2

## Tro 0805 5% 5.6k
designator R?, comment 5.6k
Dán; Don_Vi: Con; So_Chan: 2; Ten_Linh_Kien: Trở 0805 5% 5.6k; Ma_Hang: MH005310; Chung_Loai: Dán; Kieu_Chan: *
footprint tro smd 0805
pins: 1, 2

## Tro 0805 5% 6.8k
designator R?, comment 6.8k
Dán; Don_Vi: Con; So_Chan: 2; Ten_Linh_Kien: Trở 0805 5% 6.8k; Ma_Hang: MH005311; Chung_Loai: Dán; Kieu_Chan: *
footprint tro smd 0805
pins: 1, 2

## Tro 0805 5% 8.2k
designator R?, comment 8.2k
Dán; Don_Vi: Con; So_Chan: 2; Ten_Linh_Kien: Trở 0805 5% 8.2k; Ma_Hang: MH005312; Chung_Loai: Dán; Kieu_Chan: *
footprint tro smd 0805
pins: 1, 2

## Tro 0805 5% 10k
designator R?, comment 10k
Dán; Don_Vi: Con; So_Chan: 2; Ten_Linh_Kien: Trở 0805 5% 10k; Ma_Hang: MH005239; Chung_Loai: Dán; Kieu_Chan: *
footprint tro smd 0805
pins: 1, 2

## Tro 0805 5% 10R
designator R?, comment 10R
Dán; Don_Vi: Con; So_Chan: 2; Ten_Linh_Kien: Trở 0805 5% 10R; Ma_Hang: MH005240; Chung_Loai: Dán; Kieu_Chan: *
footprint tro smd 0805
pins: 1, 2

## Tro 0805 5% 12k
designator R?, comment 12k
Dán; Don_Vi: Con; So_Chan: 2; Ten_Linh_Kien: Trở 0805 5% 12k; Ma_Hang: MH005241; Chung_Loai: Dán; Kieu_Chan: *
footprint tro smd 0805
pins: 1, 2

## Tro 0805 5% 12R
designator R?, comment 12R
Dán; Don_Vi: Con; So_Chan: 2; Ten_Linh_Kien: Trở 0805 5% 12R; Ma_Hang: MH005242; Chung_Loai: Dán; Kieu_Chan: *
footprint tro smd 0805
pins: 1, 2

## Tro 0805 5% 15k
designator R?, comment 15k
Dán; Don_Vi: Con; So_Chan: 2; Ten_Linh_Kien: Trở 0805 5% 15k; Ma_Hang: MH005243; Chung_Loai: Dán; Kieu_Chan: *
footprint tro smd 0805
pins: 1, 2

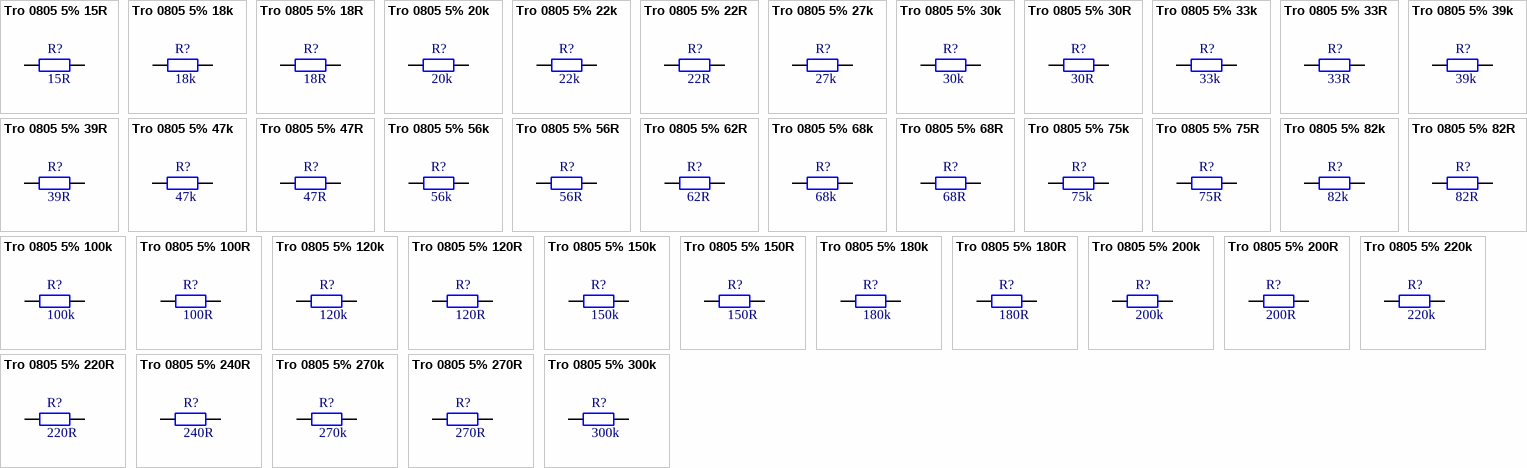
[diagram p3: symbols Tro 0805 5% 15R to Tro 0805 5% 300k]

## Tro 0805 5% 15R
designator R?, comment 15R
Dán; Don_Vi: Con; So_Chan: 2; Ten_Linh_Kien: Trở 0805 5% 15R; Ma_Hang: MH005244; Chung_Loai: Dán; Kieu_Chan: *
footprint tro smd 0805
pins: 1, 2

## Tro 0805 5% 18k
designator R?, comment 18k
Dán; Don_Vi: Con; So_Chan: 2; Ten_Linh_Kien: Trở 0805 5% 18k; Ma_Hang: MH005245; Chung_Loai: Dán; Kieu_Chan: *
footprint tro smd 0805
pins: 1, 2

## Tro 0805 5% 18R
designator R?, comment 18R
Dán; Don_Vi: Con; So_Chan: 2; Ten_Linh_Kien: Trở 0805 5% 18R; Ma_Hang: MH005246; Chung_Loai: Dán; Kieu_Chan: *
footprint tro smd 0805
pins: 1, 2

## Tro 0805 5% 20k
designator R?, comment 20k
Dán; Don_Vi: Con; So_Chan: 2; Ten_Linh_Kien: Trở 0805 5% 20k; Ma_Hang: MH005247; Chung_Loai: Dán; Kieu_Chan: *
footprint tro smd 0805
pins: 1, 2

## Tro 0805 5% 22k
designator R?, comment 22k
Dán; Don_Vi: Con; So_Chan: 2; Ten_Linh_Kien: Trở 0805 5% 22k; Ma_Hang: MH005248; Chung_Loai: Dán; Kieu_Chan: *
footprint tro smd 0805
pins: 1, 2

## Tro 0805 5% 22R
designator R?, comment 22R
Dán; Don_Vi: Con; So_Chan: 2; Ten_Linh_Kien: Trở 0805 5% 22R; Ma_Hang: MH005249; Chung_Loai: Dán; Kieu_Chan: *
footprint tro smd 0805
pins: 1, 2

## Tro 0805 5% 27k
designator R?, comment 27k
Dán; Don_Vi: Con; So_Chan: 2; Ma_Hang: MH007245; Ten_Linh_Kien: Trở 0805 5% 27k; Chung_Loai: Dán; Kieu_Chan: *
footprint Tro SMD 0805
pins: 1, 2

## Tro 0805 5% 30k
designator R?, comment 30k
Dán; Don_Vi: Con; So_Chan: 2; Ten_Linh_Kien: Trở 0805 5% 30k; Ma_Hang: MH005314; Chung_Loai: Dán; Kieu_Chan: *
footprint tro smd 0805
pins: 1, 2

## Tro 0805 5% 30R
designator R?, comment 30R
Dán; Don_Vi: Con; So_Chan: 2; Ten_Linh_Kien: Trở 0805 5% 30R; Ma_Hang: MH005315; Chung_Loai: Dán; Kieu_Chan: *
footprint tro smd 0805
pins: 1, 2

## Tro 0805 5% 33k
designator R?, comment 33k
Dán; Don_Vi: Con; So_Chan: 2; Ten_Linh_Kien: Trở 0805 5% 33k; Ma_Hang: MH005316; Chung_Loai: Dán; Kieu_Chan: *
footprint tro smd 0805
pins: 1, 2

## Tro 0805 5% 33R
designator R?, comment 33R
Dán; Don_Vi: Con; So_Chan: 2; Ten_Linh_Kien: Trở 0805 5% 33R; Ma_Hang: MH005317; Chung_Loai: Dán; Kieu_Chan: *
footprint tro smd 0805
pins: 1, 2

## Tro 0805 5% 39k
designator R?, comment 39k
Dán; Don_Vi: Con; So_Chan: 2; Ten_Linh_Kien: Trở 0805 5% 39k; Ma_Hang: MH005318; Chung_Loai: Dán; Kieu_Chan: *
footprint tro smd 0805
pins: 1, 2

## Tro 0805 5% 39R
designator R?, comment 39R
Dán; Don_Vi: Con; So_Chan: 2; Ten_Linh_Kien: Trở 0805 5% 39R; Ma_Hang: MH005319; Chung_Loai: Dán; Kieu_Chan: *
footprint tro smd 0805
pins: 1, 2

## Tro 0805 5% 47k
designator R?, comment 47k
Dán; Don_Vi: Con; So_Chan: 2; Ten_Linh_Kien: Trở 0805 5% 47k; Ma_Hang: MH005320; Chung_Loai: Dán; Kieu_Chan: *
footprint tro smd 0805
pins: 1, 2

## Tro 0805 5% 47R
designator R?, comment 47R
Dán; Don_Vi: Con; So_Chan: 2; Ten_Linh_Kien: Trở 0805 5% 47R; Ma_Hang: MH005321; Chung_Loai: Dán; Kieu_Chan: *
footprint tro smd 0805
pins: 1, 2

## Tro 0805 5% 56k
designator R?, comment 56k
Dán; Don_Vi: Con; So_Chan: 2; Ten_Linh_Kien: Trở 0805 5% 56k; Ma_Hang: MH005322; Chung_Loai: Dán; Kieu_Chan: *
footprint TRO SMD 0805
pins: 1, 2

## Tro 0805 5% 56R
designator R?, comment 56R
Dán; Don_Vi: Con; So_Chan: 2; Ten_Linh_Kien: Trở 0805 5% 56R; Ma_Hang: MH005323; Chung_Loai: Dán; Kieu_Chan: *
footprint tro smd 0805
pins: 1, 2

## Tro 0805 5% 62R
designator R?, comment 62R
Dán; Don_Vi: Con; So_Chan: 2; Ten_Linh_Kien: Trở 0805 5% 62R; Ma_Hang: MH005324; Chung_Loai: Dán; Kieu_Chan: *
footprint tro smd 0805
pins: 1, 2

## Tro 0805 5% 68k
designator R?, comment 68k
Dán; Don_Vi: Con; So_Chan: 2; Ten_Linh_Kien: Trở 0805 5% 68k; Ma_Hang: MH005325; Chung_Loai: Dán; Kieu_Chan: *
footprint tro SMD 0805
pins: 1, 2

## Tro 0805 5% 68R
designator R?, comment 68R
Dán; Don_Vi: Con; So_Chan: 2; Ten_Linh_Kien: Trở 0805 5% 68R; Ma_Hang: MH005326; Chung_Loai: Dán; Kieu_Chan: *
footprint Tro SMD 0805
pins: 1, 2

## Tro 0805 5% 75k
designator R?, comment 75k
Dán; Don_Vi: Con; So_Chan: 2; Ten_Linh_Kien: Trở 0805 5% 75k; Ma_Hang: MH005327; Chung_Loai: Dán; Kieu_Chan: *
footprint tro SMD 0805
pins: 1, 2

## Tro 0805 5% 75R
designator R?, comment 75R
Dán; Don_Vi: Con; So_Chan: 2; Ten_Linh_Kien: Trở 0805 5% 75R; Ma_Hang: MH005328; Chung_Loai: Dán; Kieu_Chan: *
footprint Tro SMD 0805
pins: 1, 2

## Tro 0805 5% 82k
designator R?, comment 82k
Dán; Don_Vi: Con; So_Chan: 2; Ten_Linh_Kien: Trở 0805 5% 82k; Ma_Hang: MH005329; Chung_Loai: Dán; Kieu_Chan: *
footprint Tro SMD 0805
pins: 1, 2

## Tro 0805 5% 82R
designator R?, comment 82R
Dán; Don_Vi: Con; So_Chan: 2; Ten_Linh_Kien: Trở 0805 5% 82R; Ma_Hang: MH005330; Chung_Loai: Dán; Kieu_Chan: *
footprint Tro SMD 0805
pins: 1, 2

## Tro 0805 5% 100k
designator R?, comment 100k
Dán; Don_Vi: Con; So_Chan: 2; Ten_Linh_Kien: Trở 0805 5% 100k; Ma_Hang: MH005250; Chung_Loai: Dán; Kieu_Chan: *
footprint tro smd 0805
pins: 1, 2

## Tro 0805 5% 100R
designator R?, comment 100R
Dán; Don_Vi: Con; So_Chan: 2; Ten_Linh_Kien: Trở 0805 5% 100R; Ma_Hang: MH005251; Chung_Loai: Dán; Kieu_Chan: *
footprint tro smd 0805
pins: 1, 2

## Tro 0805 5% 120k
designator R?, comment 120k
Dán; Don_Vi: Con; So_Chan: 2; Ten_Linh_Kien: Trở 0805 5% 120k; Ma_Hang: MH005252; Chung_Loai: Dán; Kieu_Chan: *
footprint tro smd 0805
pins: 1, 2

## Tro 0805 5% 120R
designator R?, comment 120R
Dán; Don_Vi: Con; So_Chan: 2; Ten_Linh_Kien: Trở 0805 5% 120R; Ma_Hang: MH005253; Chung_Loai: Dán; Kieu_Chan: *
footprint tro smd 0805
pins: 1, 2

## Tro 0805 5% 150k
designator R?, comment 150k
Dán; Don_Vi: Con; So_Chan: 2; Ten_Linh_Kien: Trở 0805 5% 150k; Ma_Hang: MH005254; Chung_Loai: Dán; Kieu_Chan: *
footprint tro smd 0805
pins: 1, 2

## Tro 0805 5% 150R
designator R?, comment 150R
Dán; Don_Vi: Con; So_Chan: 2; Ten_Linh_Kien: Trở 0805 5% 150R; Ma_Hang: MH005255; Chung_Loai: Dán; Kieu_Chan: *
footprint tro smd 0805
pins: 1, 2

## Tro 0805 5% 180k
designator R?, comment 180k
Dán; Don_Vi: Con; So_Chan: 2; Ten_Linh_Kien: Trở 0805 5% 180k; Ma_Hang: MH005331; Chung_Loai: Dán; Kieu_Chan: *
footprint Tro SMD 0805
pins: 1, 2

## Tro 0805 5% 180R
designator R?, comment 180R
Dán; Don_Vi: Con; So_Chan: 2; Ten_Linh_Kien: Trở 0805 5% 180R; Ma_Hang: MH005256; Chung_Loai: Dán; Kieu_Chan: *
footprint tro smd 0805
pins: 1, 2

## Tro 0805 5% 200k
designator R?, comment 200k
Dán; Don_Vi: Con; So_Chan: 2; Ten_Linh_Kien: Trở 0805 5% 200k; Ma_Hang: MH005332; Chung_Loai: Dán; Kieu_Chan: *
footprint Tro SMD 0805
pins: 1, 2

## Tro 0805 5% 200R
designator R?, comment 200R
Dán; Don_Vi: Con; So_Chan: 2; Ten_Linh_Kien: Trở 0805 5% 200R; Ma_Hang: MH005257; Chung_Loai: Dán; Kieu_Chan: *
footprint tro smd 0805
pins: 1, 2

## Tro 0805 5% 220k
designator R?, comment 220k
Dán; Don_Vi: Con; So_Chan: 2; Ten_Linh_Kien: Trở 0805 5% 220k; Ma_Hang: MH005258; Chung_Loai: Dán; Kieu_Chan: *
footprint tro smd 0805
pins: 1, 2

## Tro 0805 5% 220R
designator R?, comment 220R
Dán; Don_Vi: Con; So_Chan: 2; Ten_Linh_Kien: Trở 0805 5% 220R; Ma_Hang: MH005259; Chung_Loai: Dán; Kieu_Chan: *
footprint tro smd 0805
pins: 1, 2

## Tro 0805 5% 240R
designator R?, comment 240R
Dán; Don_Vi: Con; So_Chan: 2; Ten_Linh_Kien: Trở 0805 5% 300k; Ma_Hang: MH005334; Chung_Loai: Dán; Kieu_Chan: *
footprint Tro SMD 0805
pins: 1, 2

## Tro 0805 5% 270k
designator R?, comment 270k
Dán; Don_Vi: Con; So_Chan: 2; Ten_Linh_Kien: Trở 0805 5% 270k; Ma_Hang: MH005333; Chung_Loai: Dán; Kieu_Chan: *
footprint Tro SMD 0805
pins: 1, 2

## Tro 0805 5% 270R
designator R?, comment 270R
Dán; Don_Vi: Con; So_Chan: 2; Ma_Hang: MH005347; Ten_Linh_Kien: Trở 0805 5% 270R; Chung_Loai: Dán; Kieu_Chan: *
footprint tro smd 0805
pins: 1, 2

## Tro 0805 5% 300k
designator R?, comment 300k
Dán; Don_Vi: Con; So_Chan: 2; Ten_Linh_Kien: Trở 0805 5% 300k; Ma_Hang: MH005334; Chung_Loai: Dán; Kieu_Chan: *
footprint Tro SMD 0805
pins: 1, 2

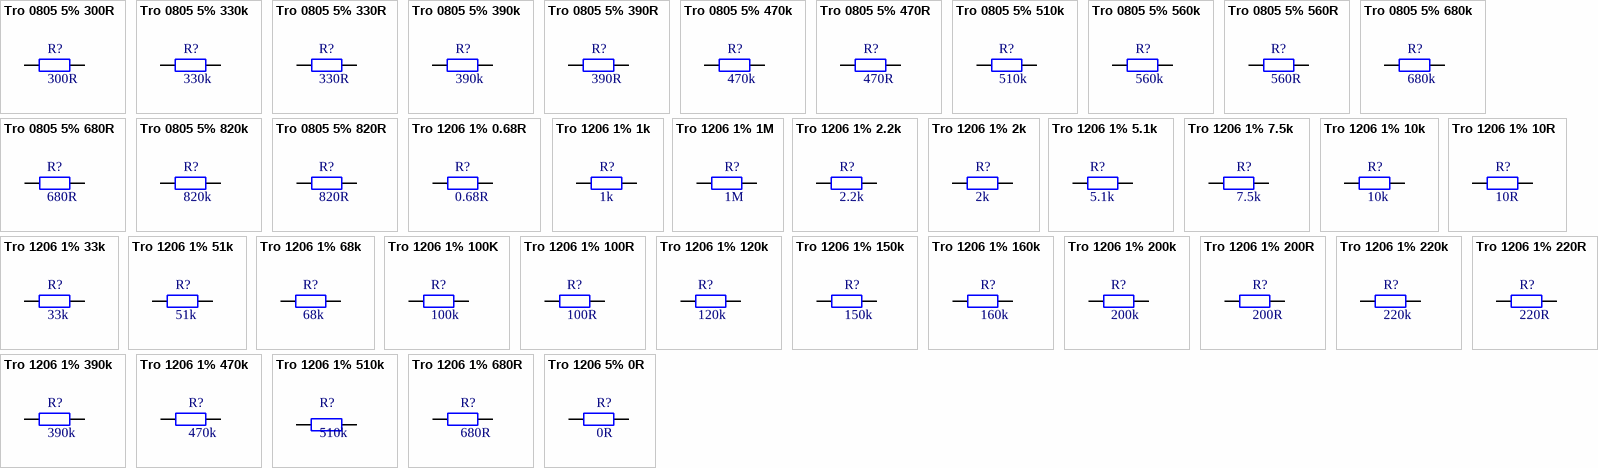
[diagram p4: symbols Tro 0805 5% 300R to Tro 1206 5% 0R]

## Tro 0805 5% 300R
designator R?, comment 300R
Dán; Don_Vi: Con; So_Chan: 2; Ten_Linh_Kien: Trở 0805 5% 300R; Ma_Hang: MH005335; Chung_Loai: Dán; Kieu_Chan: *
footprint Tro SMD 0805
pins: 1, 2

## Tro 0805 5% 330k
designator R?, comment 330k
Dán; Don_Vi: Con; So_Chan: 2; Ten_Linh_Kien: Trở 0805 5% 330K; Ma_Hang: MH005336; Chung_Loai: Dán; Kieu_Chan: *
footprint Tro SMD 0805
pins: 1, 2

## Tro 0805 5% 330R
designator R?, comment 330R
Dán; Don_Vi: Con; So_Chan: 2; Ten_Linh_Kien: Trở 0805 5% 330R; Ma_Hang: MH005337; Chung_Loai: Dán; Kieu_Chan: *
footprint Tro SMD 0805
pins: 1, 2

## Tro 0805 5% 390k
designator R?, comment 390k
Dán; Don_Vi: Con; So_Chan: 2; Ten_Linh_Kien: Trở 0805 5% 390k; Ma_Hang: MH005338; Chung_Loai: Dán; Kieu_Chan: *
footprint Tro SMD 0805
pins: 1, 2

## Tro 0805 5% 390R
designator R?, comment 390R
Dán; Don_Vi: Con; So_Chan: 2; Ten_Linh_Kien: Trở 0805 5% 390R; Ma_Hang: MH005339; Chung_Loai: Dán; Kieu_Chan: *
footprint Tro SMD 0805
pins: 1, 2

## Tro 0805 5% 470k
designator R?, comment 470k
Dán; Don_Vi: Con; Ma_Hang: MH005340; So_Chan: 2; Ten_Linh_Kien: Trở 0805 5% 470k; Chung_Loai: Dán; Kieu_Chan: *
footprint Tro SMD 0805
pins: 1, 2

## Tro 0805 5% 470R
designator R?, comment 470R
Dán; Don_Vi: Con; Ma_Hang: MH005341; Ten_Linh_Kien: Trở 0805 5% 470R; So_Chan: 2; Chung_Loai: Dán; Kieu_Chan: *
footprint Tro SMD 0805
pins: 1, 2

## Tro 0805 5% 510k
designator R?, comment 510k
Dán; Don_Vi: Con; Ma_Hang: MH007566; Ten_Linh_Kien: Trở 0805 5% 510k; So_Chan: 2; Chung_Loai: Dán; Kieu_Chan: *
footprint Tro SMD 0805
pins: 1, 2

## Tro 0805 5% 560k
designator R?, comment 560k
Dán; Don_Vi: Con; Ma_Hang: MH005342; Ten_Linh_Kien: Trở 0805 5% 560k; So_Chan: 2; Chung_Loai: Dán; Kieu_Chan: *
footprint Tro SMD 0805
pins: 1, 2

## Tro 0805 5% 560R
designator R?, comment 560R
Dán; Don_Vi: Con; So_Chan: 2; Ten_Linh_Kien: Trở 0805 5% 560R; Ma_Hang: MH005261; Chung_Loai: Dán; Kieu_Chan: *
footprint tro smd 0805
pins: 1, 2

## Tro 0805 5% 680k
designator R?, comment 680k
Dán; Don_Vi: Con; Ma_Hang: MH005343; Ten_Linh_Kien: Trở 0805 5% 680k; So_Chan: 2; Chung_Loai: Dán; Kieu_Chan: *
footprint Tro SMD 0805
pins: 1, 2

## Tro 0805 5% 680R
designator R?, comment 680R
Dán; Don_Vi: Con; Ma_Hang: MH005344; So_Chan: 2; Ten_Linh_Kien: Trở 0805 5% 680R; Chung_Loai: Dán; Kieu_Chan: *
footprint Tro SMD 0805
pins: 1, 2

## Tro 0805 5% 820k
designator R?, comment 820k
Dán; Don_Vi: Con; Ma_Hang: MH005345; So_Chan: 2; Ten_Linh_Kien: Trở 0805 5% 820k; Chung_Loai: Dán; Kieu_Chan: *
footprint Tro SMD 0805
pins: 1, 2

## Tro 0805 5% 820R
designator R?, comment 820R
Dán; Don_Vi: Con; So_Chan: 2; Ma_Hang: MH005346; Ten_Linh_Kien: Trở 0805 5% 820R; Chung_Loai: Dán; Kieu_Chan: *
footprint Tro SMD 0805
pins: 1, 2

## Tro 1206 1% 0.68R
designator R?, comment 0.68R
Dán; Don_Vi: Con; Ma_Hang: MH008104; Ten_linh_Kien: Trở 1206 1% 0.68R; So_Chan: 2; Chung_Loai: Dán; Kieu_Chan: *
footprint tro smd 1206
pins: 1, 2

## Tro 1206 1% 1k
designator R?, comment 1k
Dán; Don_Vi: Con; So_Chan: 2; Ten_Linh_Kien: Trở 1206 1% 1k; Ma_Hang: MH005880; Chung_Loai: Dán; Kieu_Chan: *
footprint tro smd 1206
pins: 1, 2

## Tro 1206 1% 1M
designator R?, comment 1M
Dán; Don_Vi: Con; So_Chan: 2; Ten_Linh_Kien: Trở 1206 1% 1M; Ma_Hang: MH005881; Chung_Loai: Dán; Kieu_Chan: *
footprint tro smd 1206
pins: 1, 2

## Tro 1206 1% 2.2k
designator R?, comment 2.2k
Dán; Chung_Loai: Cắm; Don_Vi: Con; So_Chan: 2; Ten_Linh_Kien: Trở 1206 1% 2.2k; Ma_Hang: MH005882; Kieu_Chan: *
footprint tro smd 1206
pins: 1, 2

## Tro 1206 1% 2k
designator R?, comment 2k
Dán; Don_Vi: Con; So_Chan: 2; Ma_Hang: MH005883; Ten_Linh_Kien: Trở 1206 1% 2k; Chung_Loai: Dán; Kieu_Chan: *
footprint tro smd 1206
pins: 1, 2

## Tro 1206 1% 5.1k
designator R?, comment 5.1k
Dán; Don_Vi: Con; So_Chan: 2; Ten_Linh_Kien: Trở 1206 1% 5.1k; Ma_Hang: MH008811; Chung_Loai: Dán; Kieu_Chan: *
footprint tro smd 1206
pins: 1, 2

## Tro 1206 1% 7.5k
designator R?, comment 7.5k
Dán; Don_Vi: Con; So_Chan: 2; Ten_Linh_Kien: Trở 1206 1% 7.5k; Ma_Hang: MH005884; Chung_Loai: Dán; Kieu_Chan: *
footprint tro smd 1206
pins: 1, 2

## Tro 1206 1% 10k
designator R?, comment 10k
Dán; Don_Vi: Con; So_Chan: 2; Ten_Linh_Kien: Trở 1206 1% 10k; Ma_Hang: MH005885; Chung_Loai: Dán; Kieu_Chan: *
footprint tro smd 1206
pins: 1, 2

## Tro 1206 1% 10R
designator R?, comment 10R
Dán; Don_Vi: Con; So_Chan: 2; Ten_Linh_Kien: Trở 1206 1% 10R; Ma_Hang: MH005886; Chung_Loai: Dán; Kieu_Chan: *
footprint tro smd 1206
pins: 1, 2

## Tro 1206 1% 33k
designator R?, comment 33k
Dán; So_Chan: 2; Don_Vi: Con; Ten_Linh_Kien: Trở 1206 1% 33k; Ma_Hang: MH005887; Chung_Loai: Dán; Kieu_Chan: *
footprint tro smd 1206
pins: 1, 2

## Tro 1206 1% 51k
designator R?, comment 51k
Dán; Don_Vi: Con; So_Chan: 2; Ten_Linh_Kien: Trở 1206 1% 51k; Ma_Hang: MH005888; Chung_Loai: Dán; Kieu_Chan: *
footprint tro smd 1206
pins: 1, 2

## Tro 1206 1% 68k
designator R?, comment 68k
Dán; Don_Vi: Con; So_Chan: 2; Ten_Linh_Kien: Trở 1206 1% 68k; Ma_Hang: MH005889; Chung_Loai: Dán; Kieu_Chan: *
footprint tro smd 1206
pins: 1, 2

## Tro 1206 1% 100K
designator R?, comment 100k
Dán; So_Chan: 2; Don_Vi: Con; Ten_Linh_Kien: Trở 1206 1% 100k; Ma_Hang: MH005890; Chung_Loai: Dán; Kieu_Chan: *
footprint tro smd 1206
pins: 1, 2

## Tro 1206 1% 100R
designator R?, comment 100R
Dán; So_Chan: 2; Don_Vi: Con; Ten_Linh_Kien: Trở 1206 1% 100R; Ma_Hang: MH005891; Chung_Loai: Dán; Kieu_Chan: *
footprint tro smd 1206
pins: 1, 2

## Tro 1206 1% 120k
designator R?, comment 120k
Dán; Don_Vi: Con; So_Chan: 2; Ten_Linh_Kien: Trở 1206 1% 120K; Ma_Hang: MH005892; Chung_Loai: Dán; Kieu_Chan: *
footprint tro smd 1206
pins: 1, 2

## Tro 1206 1% 150k
designator R?, comment 150k
Dán; Don_Vi: Con; So_Chan: 2; Ten_Linh_Kien: Trở 1206 1% 150k; Ma_Hang: MH005893; Chung_Loai: Dán; Kieu_Chan: *
footprint tro smd 1206
pins: 1, 2

## Tro 1206 1% 160k
designator R?, comment 160k
Dán; Don_Vi: Con; So_Chan: 2; Ten_Linh_Kien: Trở 1206 1% 160k; Ma_Hang: MH005894; Chung_Loai: Dán; Kieu_Chan: *
footprint tro smd 1206
pins: 1, 2

## Tro 1206 1% 200k
designator R?, comment 200k
Dán; Don_Vi: Con; So_Chan: 2; Ten_Linh_Kien: Trở 1206 1% 200k; Ma_Hang: MH008915; Chung_Loai: Dán; Kieu_Chan: *
footprint tro smd 1206
pins: 1, 2

## Tro 1206 1% 200R
designator R?, comment 200R
Dán; So_Chan: 2; Don_Vi: Con; Ten_Linh_Kien: Trở 1206 1% 200R; Ma_Hang: MH005895; Chung_Loai: Dán; Kieu_Chan: *
footprint tro smd 1206
pins: 1, 2

## Tro 1206 1% 220k
designator R?, comment 220k
Dán; Don_Vi: Con; So_Chan: 2; Ten_Linh_Kien: Trở 1206 1% 220K; Ma_Hang: MH005896; Chung_Loai: Dán; Kieu_Chan: *
footprint tro smd 1206
pins: 1, 2

## Tro 1206 1% 220R
designator R?, comment 220R
Dán; Ma_Hang: MH005897; Don_Vi: Con; So_Chan: 2; Ten_Linh_Kien: Trở 1206 1% 220R; Chung_Loai: Dán; Kieu_Chan: *
footprint tro smd 1206
pins: 1, 2

## Tro 1206 1% 390k
designator R?, comment 390k
Dán; Don_Vi: Con; So_Chan: 2; Ten_Linh_Kien: Trở 1206 1% 390k; Ma_Hang: MH005898; Chung_Loai: Dán; Kieu_Chan: *
footprint tro smd 1206
pins: 1, 2

## Tro 1206 1% 470k
designator R?, comment 470k
Dán; Don_Vi: Con; Ten_Linh_Kien: Trở 1206 5% 470k; So_Chan: 2; Ma_Hang: MH005899; Chung_Loai: Dán; Kieu_Chan: *
footprint tro smd 1206
pins: 1, 2

## Tro 1206 1% 510k
designator R?, comment 510k
Dán; Don_Vi: Con; So_Chan: 2; Ten_Linh_Kien: Trở 1206 1% 510k; Ma_Hang: MH005900; Chung_Loai: Dán; Kieu_Chan: *
footprint tro smd 1206
pins: 1, 2

## Tro 1206 1% 680R
designator R?, comment 680R
Dán; Don_Vi: Con; So_Chan: 2; Ten_Linh_Kien: Trở 1206 5% 680R; Ma_Hang: MH005901; Chung_Loai: Dán; Kieu_Chan: *
footprint tro smd 1206
pins: 1, 2

## Tro 1206 5% 0R
designator R?, comment 0R
Dán; Don_Vi: Con; So_Chan: 2; Ten_Linh_Kien: Trở 1206 5% 0R; Ma_Hang: MH005902; Chung_Loai: Dán; Kieu_Chan: *
footprint tro smd 1206
pins: 1, 2

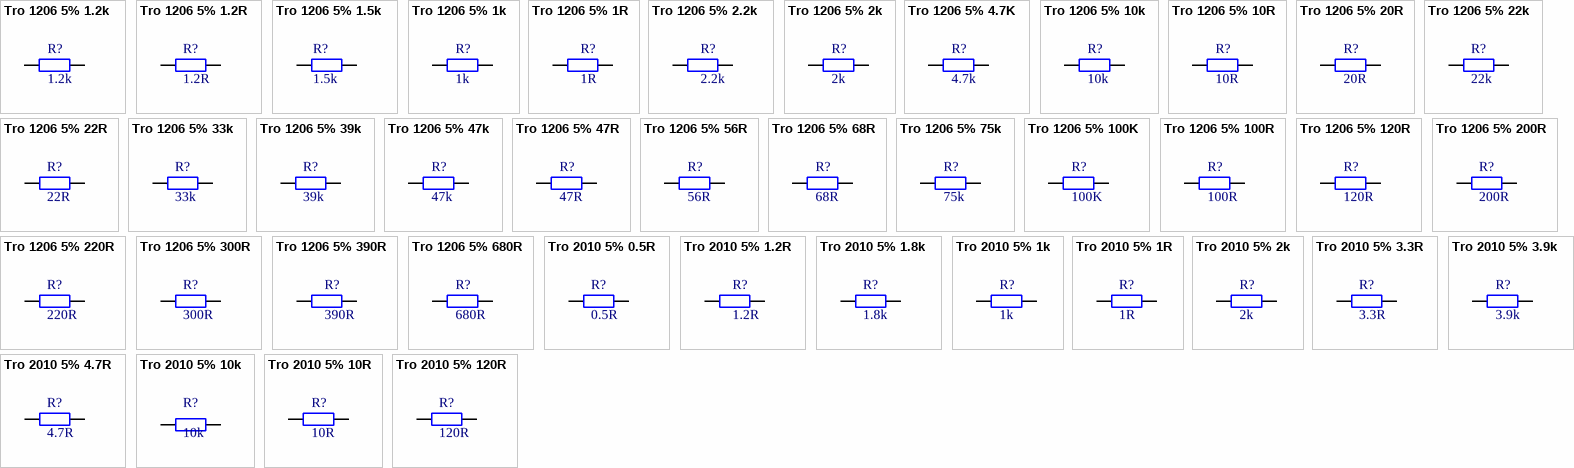
[diagram p5: symbols Tro 1206 5% 1.2k to Tro 2010 5% 120R]

## Tro 1206 5% 1.2k
designator R?, comment 1.2k
Dán; Don_Vi: Con; So_Chan: 2; Ten_Linh_Kien: Trở 1206 5% 1.2K; Ma_Hang: MH008106; Chung_Loai: Dán; Kieu_Chan: *
footprint tro smd 1206
pins: 1, 2

## Tro 1206 5% 1.2R
designator R?, comment 1.2R
Dán; Don_Vi: Con; So_Chan: 2; Ten_Linh_Kien: Trở 1206 5% 1.2R; Ma_Hang: MH008103; Chung_Loai: Dán; Kieu_Chan: *
footprint tro smd 1206
pins: 1, 2

## Tro 1206 5% 1.5k
designator R?, comment 1.5k
Dán; Don_Vi: Con; So_Chan: 2; Ten_Linh_Kien: Trở 1206 5% 1.5k; Ma_Hang: MH005903; Chung_Loai: Dán; Kieu_Chan: *
footprint tro smd 1206
pins: 1, 2

## Tro 1206 5% 1k
designator R?, comment 1k
Dán; Don_Vi: Con; So_Chan: 2; Ten_Linh_Kien: Trở 1206 5% 1k; Ma_Hang: MH005904; Chung_Loai: Dán; Kieu_Chan: *
footprint tro smd 1206
pins: 1, 2

## Tro 1206 5% 1R
designator R?, comment 1R
Dán; Don_Vi: Con; So_Chan: 2; Ten_Linh_Kien: Trở 1206 5% 1R; Ma_Hang: MH005905; Chung_Loai: Dán; Kieu_Chan: *
footprint tro smd 1206
pins: 1, 2

## Tro 1206 5% 2.2k
designator R?, comment 2.2k
Dán; Don_Vi: Con; So_Chan: 2; Ten_Linh_Kien: Trở 1206 5% 2.2k; Ma_Hang: MH005906; Chung_Loai: Dán; Kieu_Chan: *
footprint tro smd 1206
pins: 1, 2

## Tro 1206 5% 2k
designator R?, comment 2k
Dán; Don_Vi: Con; So_Chan: 2; Ten_Linh_Kien: Trở 1206 5% 2k; Ma_Hang: MH005907; Chung_Loai: Dán; Kieu_Chan: *
footprint tro smd 1206
pins: 1, 2

## Tro 1206 5% 4.7K
designator R?, comment 4.7k
Dán; So_Chan: 2; Don_Vi: Con; Ten_Linh_Kien: Trở 1206 5% 4.7k; Ma_Hang: MH005908; Chung_Loai: Dán; Kieu_Chan: *
footprint tro smd 1206
pins: 1, 2

## Tro 1206 5% 10k
designator R?, comment 10k
Dán; Don_Vi: Con; So_Chan: 2; Ten_Linh_Kien: Trở 1206 5% 10K; Ma_Hang: MH005909; Chung_Loai: Dán; Kieu_Chan: *
footprint tro smd 1206
pins: 1, 2

## Tro 1206 5% 10R
designator R?, comment 10R
Dán; Don_Vi: Con; So_Chan: 2; Ten_Linh_Kien: Trở 1206 5% 10R; Ma_Hang: MH005910; Chung_Loai: Dán; Kieu_Chan: *
footprint tro smd 1206
pins: 1, 2

## Tro 1206 5% 20R
designator R?, comment 20R
Dán; Don_Vi: Con; So_Chan: 2; Ten_Linh_Kien: Trở 1206 5% 20R; Ma_Hang: MH005911; Chung_Loai: Dán; Kieu_Chan: *
footprint tro smd 1206
pins: 1, 2

## Tro 1206 5% 22k
designator R?, comment 22k
Dán; Don_Vi: Con; So_Chan: 2; Ten_Linh_Kien: Trở 1206 5% 22k; Ma_Hang: MH005912; Chung_Loai: Dán; Kieu_Chan: *
footprint tro smd 1206
pins: 1, 2

## Tro 1206 5% 22R
designator R?, comment 22R
Dán; Don_Vi: Con; So_Chan: 2; Ten_Linh_Kien: Trở 1206 5% 22R; Ma_Hang: MH005913; Chung_Loai: Dán; Kieu_Chan: *
footprint Tro smd 1206
pins: 1, 2

## Tro 1206 5% 33k
designator R?, comment 33k
Dán; Don_Vi: Con; So_Chan: 2; Ten_Linh_Kien: Trở 1206 5% 33k; Ma_Hang: MH005914; Chung_Loai: Dán; Kieu_Chan: *
footprint Tro smd 1206
pins: 1, 2

## Tro 1206 5% 39k
designator R?, comment 39k
Dán; Don_Vi: Con; So_Chan: 2; Ten_Linh_Kien: Trở 1206 5% 39k; Ma_Hang: MH005915; Chung_Loai: Dán; Kieu_Chan: *
footprint tro smd 1206
pins: 1, 2

## Tro 1206 5% 47k
designator R?, comment 47k
Dán; Don_Vi: Con; Ten_Linh_Kien: Trở 1206 5% 47k; Ma_Hang: MH005916; So_Chan: 2; Chung_Loai: Dán; Kieu_Chan: *
footprint tro smd 1206
pins: 1, 2

## Tro 1206 5% 47R
designator R?, comment 47R
Dán; Don_Vi: Con; So_Chan: 2; Ma_Hang: MH005917; Ten_Linh_Kien: Trở 1206 5% 47R; Chung_Loai: Dán; Kieu_Chan: *
footprint tro smd 1206
pins: 1, 2

## Tro 1206 5% 56R
designator R?, comment 56R
Dán; Don_Vi: Con; So_Chan: 2; Ten_Linh_Kien: Trở 1206 5% 56R; Ma_Hang: MH005918; Chung_Loai: Dán; Kieu_Chan: *
footprint tro smd 1206
pins: 1, 2

## Tro 1206 5% 68R
designator R?, comment 68R
Dán; Don_Vi: Con; So_Chan: 2; Ten_Linh_Kien: Trở 1206 5% 68R; Ma_Hang: MH005919; Chung_Loai: Dán; Kieu_Chan: *
footprint Tro smd 1206
pins: 1, 2

## Tro 1206 5% 75k
designator R?, comment 75k
Dán; Don_Vi: Con; So_Chan: 2; Ten_Linh_Kien: Trở 1206 5% 75k; Ma_Hang: MH005920; Chung_Loai: Dán; Kieu_Chan: *
footprint tro smd 1206
pins: 1, 2

## Tro 1206 5% 100K
designator R?, comment 100K
Dán; Don_Vi: Con; So_Chan: 2; Ten_Linh_Kien: Trở 1206 5% 100k; Ma_Hang: MH005921; Chung_Loai: Dán; Kieu_Chan: *
footprint tro smd 1206
pins: 1, 2

## Tro 1206 5% 100R
designator R?, comment 100R
Dán; Don_Vi: Con; So_Chan: 2; Ten_Linh_Kien: Trở 1206 5% 100R; Ma_Hang: MH005922; Chung_Loai: Dán; Kieu_Chan: *
footprint tro smd 1206
pins: 1, 2

## Tro 1206 5% 120R
designator R?, comment 120R
Dán; Don_Vi: Con; So_Chan: 2; Ten_Linh_Kien: Trở 1206 5% 120R; Ma_Hang: MH005923; Chung_Loai: Dán; Kieu_Chan: *
footprint tro smd 1206
pins: 1, 2

## Tro 1206 5% 200R
designator R?, comment 200R
Dán; Don_Vi: Con; So_Chan: 2; Ten_Linh_Kien: Trở 1206 5% 200R; Ma_Hang: MH005924; Chung_Loai: Dán; Kieu_Chan: *
footprint tro smd 1206
pins: 1, 2

## Tro 1206 5% 220R
designator R?, comment 220R
Dán; Don_Vi: Con; So_Chan: 2; Ten_Linh_Kien: Trở 1206 5% 220R; Ma_Hang: MH005925; Chung_Loai: Dán; Kieu_Chan: *
footprint tro smd 1206
pins: 1, 2

## Tro 1206 5% 300R
designator R?, comment 300R
Dán; Don_Vi: Con; So_Chan: 2; Ten_Linh_Kien: Trở 1206 5% 300R; Ma_Hang: MH005926; Chung_Loai: Dán; Kieu_Chan: *
footprint tro smd 1206
pins: 1, 2

## Tro 1206 5% 390R
designator R?, comment 390R
Dán; Don_Vi: Con; So_Chan: 2; Ten_Linh_Kien: Trở 1206 5% 390R; Ma_Hang: MH005927; Chung_Loai: Dán; Kieu_Chan: *
footprint Tro smd 1206
pins: 1, 2

## Tro 1206 5% 680R
designator R?, comment 680R
Dán; Don_Vi: Con; So_Chan: 2; Ten_Linh_Kien: Trở 1206 5% 680R; Ma_Hang: MH005928; Chung_Loai: Dán; Kieu_Chan: *
footprint tro smd 1206
pins: 1, 2

## Tro 2010 5% 0.5R
designator R?, comment 0.5R
Dán; Don_Vi: Con; So_Chan: 2; Ten_Linh_Kien: Trở 2010 5% R500-0.5R; Ma_Hang: MH003430; Chung_Loai: Dán; Kieu_Chan: *
footprint tro smd 2010
pins: 1, 2

## Tro 2010 5% 1.2R
designator R?, comment 1.2R
Dán; Don_Vi: Con; So_Chan: 2; Ten_Linh_Kien: Trở 2010 5% 1R2-1.2R; Ma_Hang: MH003433; Chung_Loai: Dán; Kieu_Chan: *
footprint tro smd 2010
pins: 1, 2

## Tro 2010 5% 1.8k
designator R?, comment 1.8k
Dán; Don_Vi: Con; So_Chan: 2; Ten_Linh_Kien: Trở 2010 5% 1.8k; Ma_Hang: MH008672; Chung_Loai: Dán; Kieu_Chan: *
footprint tro smd 2010
pins: 1, 2

## Tro 2010 5% 1k
designator R?, comment 1k
Dán; Don_Vi: Con; So_Chan: 2; Ten_Linh_Kien: Trở 2010 5% 102-1k; Ma_Hang: MH003434; Chung_Loai: Dán; Kieu_Chan: *
footprint tro smd 2010
pins: 1, 2

## Tro 2010 5% 1R
designator R?, comment 1R
Dán; Don_Vi: Con; So_Chan: 2; Ma_Hang: MH005616; Ten_Linh_Kien: Trở 2010 5% 1R-1R; Chung_Loai: Dán; Kieu_Chan: *
footprint tro smd 2010
pins: 1, 2

## Tro 2010 5% 2k
designator R?, comment 2k
Dán; Don_Vi: Con; So_Chan: 2; Ten_Linh_Kien: Trở 2010 5% 202-2k; Ma_Hang: MH005997; Chung_Loai: Dán; Kieu_Chan: *
footprint tro smd 2010
pins: 1, 2

## Tro 2010 5% 3.3R
designator R?, comment 3.3R
Dán; Don_Vi: Con; So_Chan: 2; Ten_Linh_Kien: Trở 2010 5% 3.3R; Ma_Hang: MH005995; Chung_Loai: Dán; Kieu_Chan: *
footprint tro smd 2010
pins: 1, 2

## Tro 2010 5% 3.9k
designator R?, comment 3.9k
Dán; Don_Vi: Con; So_Chan: 2; Ten_Linh_Kien: Trở 2010 5% 3.9k; Ma_Hang: MH008671; Chung_Loai: Dán; Kieu_Chan: *
footprint tro smd 2010
pins: 1, 2

## Tro 2010 5% 4.7R
designator R?, comment 4.7R
Dán; Don_Vi: Con; So_Chan: 2; Ten_Linh_Kien: Trở 2010 5% 4R7-4.7R; Ma_Hang: MH003435; Chung_Loai: Dán; Kieu_Chan: *
footprint tro smd 2010
pins: 1, 2